# Altium schematic symbol library Cap_35SVPK180M.SchLib: 1 symbol
Pins are listed as number, name and electrical type; pins without a type are passive.

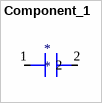
[diagram p0: symbol Component_1]

## Component_1
designator *
footprint CAPAE9083X120M (Aluminum Electrolytic Capacitor, Body 8,30x8,30x12,00mm, IPC Low Density)
pins: 1, 2